# EAGLE library part AD633 (library joakim)
AD633 Multiplier (X*Y)/(10*Z)
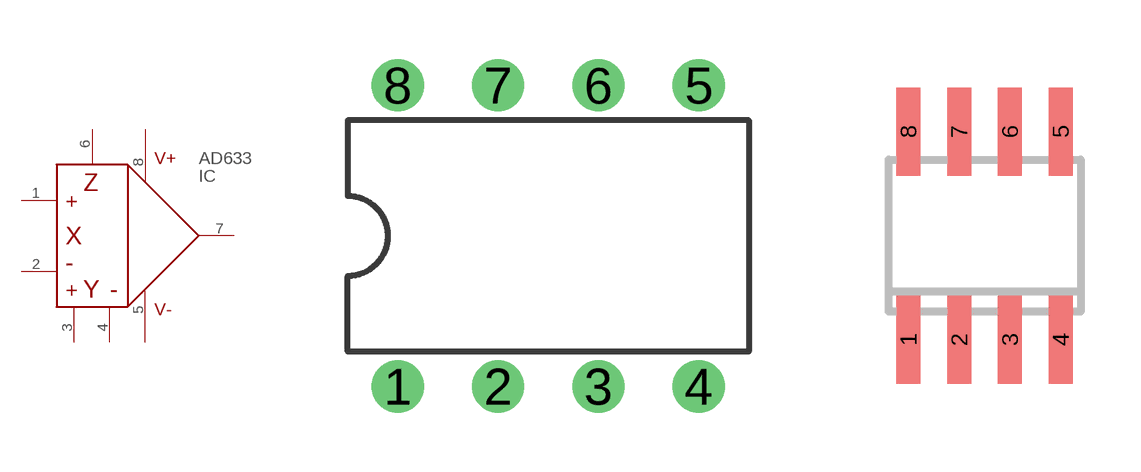
[diagram p1: symbol with the pads of DIL08J; footprints DIL08J, SO08J]

Designator prefix IC

## AD633N  [DIL08J]
1  P$1
2  P$2
3  P$3
4  P$4
5  P$8  pwr
6  P$5
7  P$6
8  P$7  pwr

## AD633  [SO08J]
1  P$3
2  P$4
3  P$8  pwr
4  P$5
5  P$6
6  P$7  pwr
7  P$1
8  P$2

## Footprint DIL08J (pad centres in mm)
Dual In Line Package
drill 0.813 pad 1.27: 1 -3.81,-3.81; 2 -1.27,-3.81; 3 1.27,-3.81; 4 3.81,-3.81; 5 3.81,3.81; 6 1.27,3.81; 7 -1.27,3.81; 8 -3.81,3.81

## Footprint SO08J (pad centres in mm)
Small Outline Package 8 NS Package M08A
smd 0.6 x 2.2: 1 -1.905,-2.6; 2 -0.635,-2.6; 3 0.635,-2.6; 4 1.905,-2.6; 5 1.905,2.6; 6 0.635,2.6; 7 -0.635,2.6; 8 -1.905,2.6